# EAGLE library part EXBN8V (library Panasonic-EXB-ERJ)
Chip Resistor Array
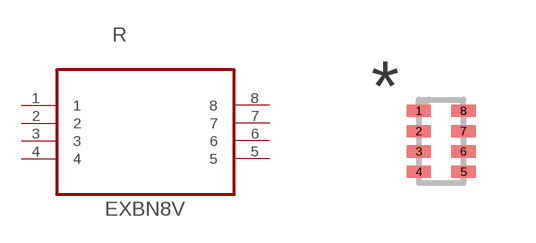
[diagram p3: symbol with the pads of RESCAV50P200X100X55-8N; footprint RESCAV50P200X100X55-8N]

Designator prefix R

## EXBN8V100JX (MPN: EXBN8V100JX; OC_FARNELL: 2060130; OC_NEWARK: 65T8978; PACKAGE: 0402; POWERRATING: 0.031 W/element; SUPPLIER: PANASONIC; TOLERANCE: ±5 %; VALUE: 10R), EXBN8V101JX (MPN: EXBN8V101JX; OC_FARNELL: 2060141; OC_NEWARK: 65T8979; PACKAGE: 0402; POWERRATING: 0.031 W/element; SUPPLIER: PANASONIC; TOLERANCE: ±5 %; VALUE: 100R), EXBN8V102JX (MPN: EXBN8V102JX; OC_FARNELL: 2060143; OC_NEWARK: 65T8980; PACKAGE: 0402; POWERRATING: 0.031 W/element; SUPPLIER: PANASONIC; TOLERANCE: ±5 %; VALUE: 1K), EXBN8V103JX (MPN: EXBN8V103JX; OC_FARNELL: 2060145; OC_NEWARK: 65T8981; PACKAGE: 0402; POWERRATING: 0.031 W/element; SUPPLIER: PANASONIC; TOLERANCE: ±5 %; VALUE: 10K), EXBN8V104JX (MPN: EXBN8V104JX; OC_FARNELL: 2060147; OC_NEWARK: 65T8982; PACKAGE: 0402; POWERRATING: 0.031 W/element; SUPPLIER: PANASONIC; TOLERANCE: ±5 %; VALUE: 100K), EXBN8V220JX (MPN: EXBN8V220JX; OC_FARNELL: 2060131; OC_NEWARK: 65T8983; PACKAGE: 0402; POWERRATING: 0.031 W/element; SUPPLIER: PANASONIC; TOLERANCE: ±5 %; VALUE: 22R), EXBN8V270JX (MPN: EXBN8V270JX; OC_FARNELL: 2060132; OC_NEWARK: 65T8984; PACKAGE: 0402; POWERRATING: 0.031 W/element; SUPPLIER: PANASONIC; TOLERANCE: ±5 %; VALUE: 27R), EXBN8V330JX (MPN: EXBN8V330JX; OC_FARNELL: 2060133; OC_NEWARK: 65T8985; PACKAGE: 0402; POWERRATING: 0.031 W/element; SUPPLIER: PANASONIC; TOLERANCE: ±5 %; VALUE: 33R), EXBN8V360JX (MPN: EXBN8V360JX; OC_FARNELL: 2060134; OC_NEWARK: 65T8986; PACKAGE: 0402; POWERRATING: 0.031 W/element; SUPPLIER: PANASONIC; TOLERANCE: ±5 %; VALUE: 36R), EXBN8V470JX (MPN: EXBN8V470JX; OC_FARNELL: 2060135; OC_NEWARK: 65T8987; PACKAGE: 0402; POWERRATING: 0.031 W/element; SUPPLIER: PANASONIC; TOLERANCE: ±5 %; VALUE: 47R), EXBN8V471JX (MPN: EXBN8V471JX; OC_FARNELL: 2060142; OC_NEWARK: 65T8988; PACKAGE: 0402; POWERRATING: 0.031 W/element; SUPPLIER: PANASONIC; TOLERANCE: ±5 %; VALUE: 470R), EXBN8V472JX (MPN: EXBN8V472JX; OC_FARNELL: 2060144; OC_NEWARK: 65T8989; PACKAGE: 0402; POWERRATING: 0.031 W/element; SUPPLIER: PANASONIC; TOLERANCE: ±5 %; VALUE: 4K7), EXBN8V473JX (MPN: EXBN8V473JX; OC_FARNELL: 2060146; OC_NEWARK: 65T8990; PACKAGE: 0402; POWERRATING: 0.031 W/element; SUPPLIER: PANASONIC; TOLERANCE: ±5 %; VALUE: 47K), EXBN8V510JX (MPN: EXBN8V510JX; OC_FARNELL: 2060136; OC_NEWARK: 65T8991; PACKAGE: 0402; POWERRATING: 0.031 W/element; SUPPLIER: PANASONIC; TOLERANCE: ±5 %; VALUE: 51R), EXBN8V560JX (MPN: EXBN8V560JX; OC_FARNELL: 2060137; OC_NEWARK: 65T8992; PACKAGE: 0402; POWERRATING: 0.031 W/element; SUPPLIER: PANASONIC; TOLERANCE: ±5 %; VALUE: 56R), EXBN8V680JX (MPN: EXBN8V680JX; OC_FARNELL: 2060138; OC_NEWARK: 65T8993; PACKAGE: 0402; POWERRATING: 0.031 W/element; SUPPLIER: PANASONIC; TOLERANCE: ±5 %; VALUE: 68R), EXBN8VR000X (MPN: EXBN8VR000X; OC_FARNELL: 2060129; OC_NEWARK: 65T8977; PACKAGE: 0402; POWERRATING: 0.031 W/element; SUPPLIER: PANASONIC; TOLERANCE: Jumper; VALUE: 0R)  [RESCAV50P200X100X55-8N]
1  1  pas
2  2  pas
3  3  pas
4  4  pas
5  5  pas
6  6  pas
7  7  pas
8  8  pas

## Footprint RESCAV50P200X100X55-8N (pad centres in mm)
smd 0.61 x 0.305: 1 -0.559,0.762; 2 -0.559,0.254; 3 -0.559,-0.254; 4 -0.559,-0.762; 5 0.559,-0.762; 6 0.559,-0.254; 7 0.559,0.254; 8 0.559,0.762